# EAGLE library part LSM6DS33 (library me433)
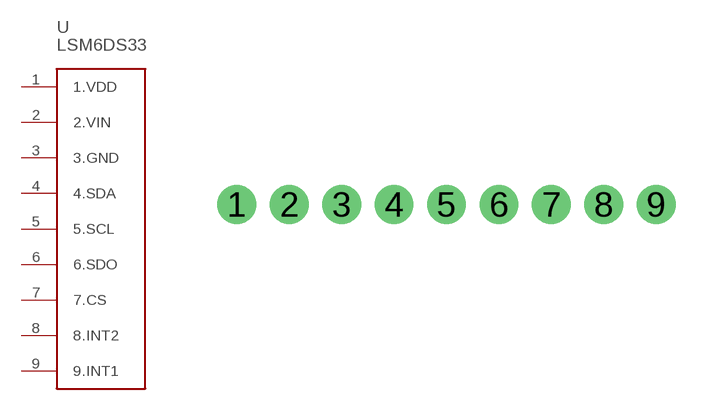
[diagram p5: symbol with the pads of LSM6DS33; footprint LSM6DS33]

Designator prefix -

## LSM6DS33  [LSM6DS33]
1  1.VDD
2  2.VIN
3  3.GND
4  4.SDA
5  5.SCL
6  6.SDO
7  7.CS
8  8.INT2
9  9.INT1

## Footprint LSM6DS33 (pad centres in mm)
drill 1.016 pad 1.88: 1 -10.16,0; 2 -7.62,0; 3 -5.08,0; 4 -2.54,0; 5 0,0; 6 2.54,0; 7 5.08,0; 8 7.62,0; 9 10.16,0